# Altium schematic symbol library orig_mainboard.SchLib: 55 symbols
Pins are listed as number, name and electrical type; pins without a type are passive.

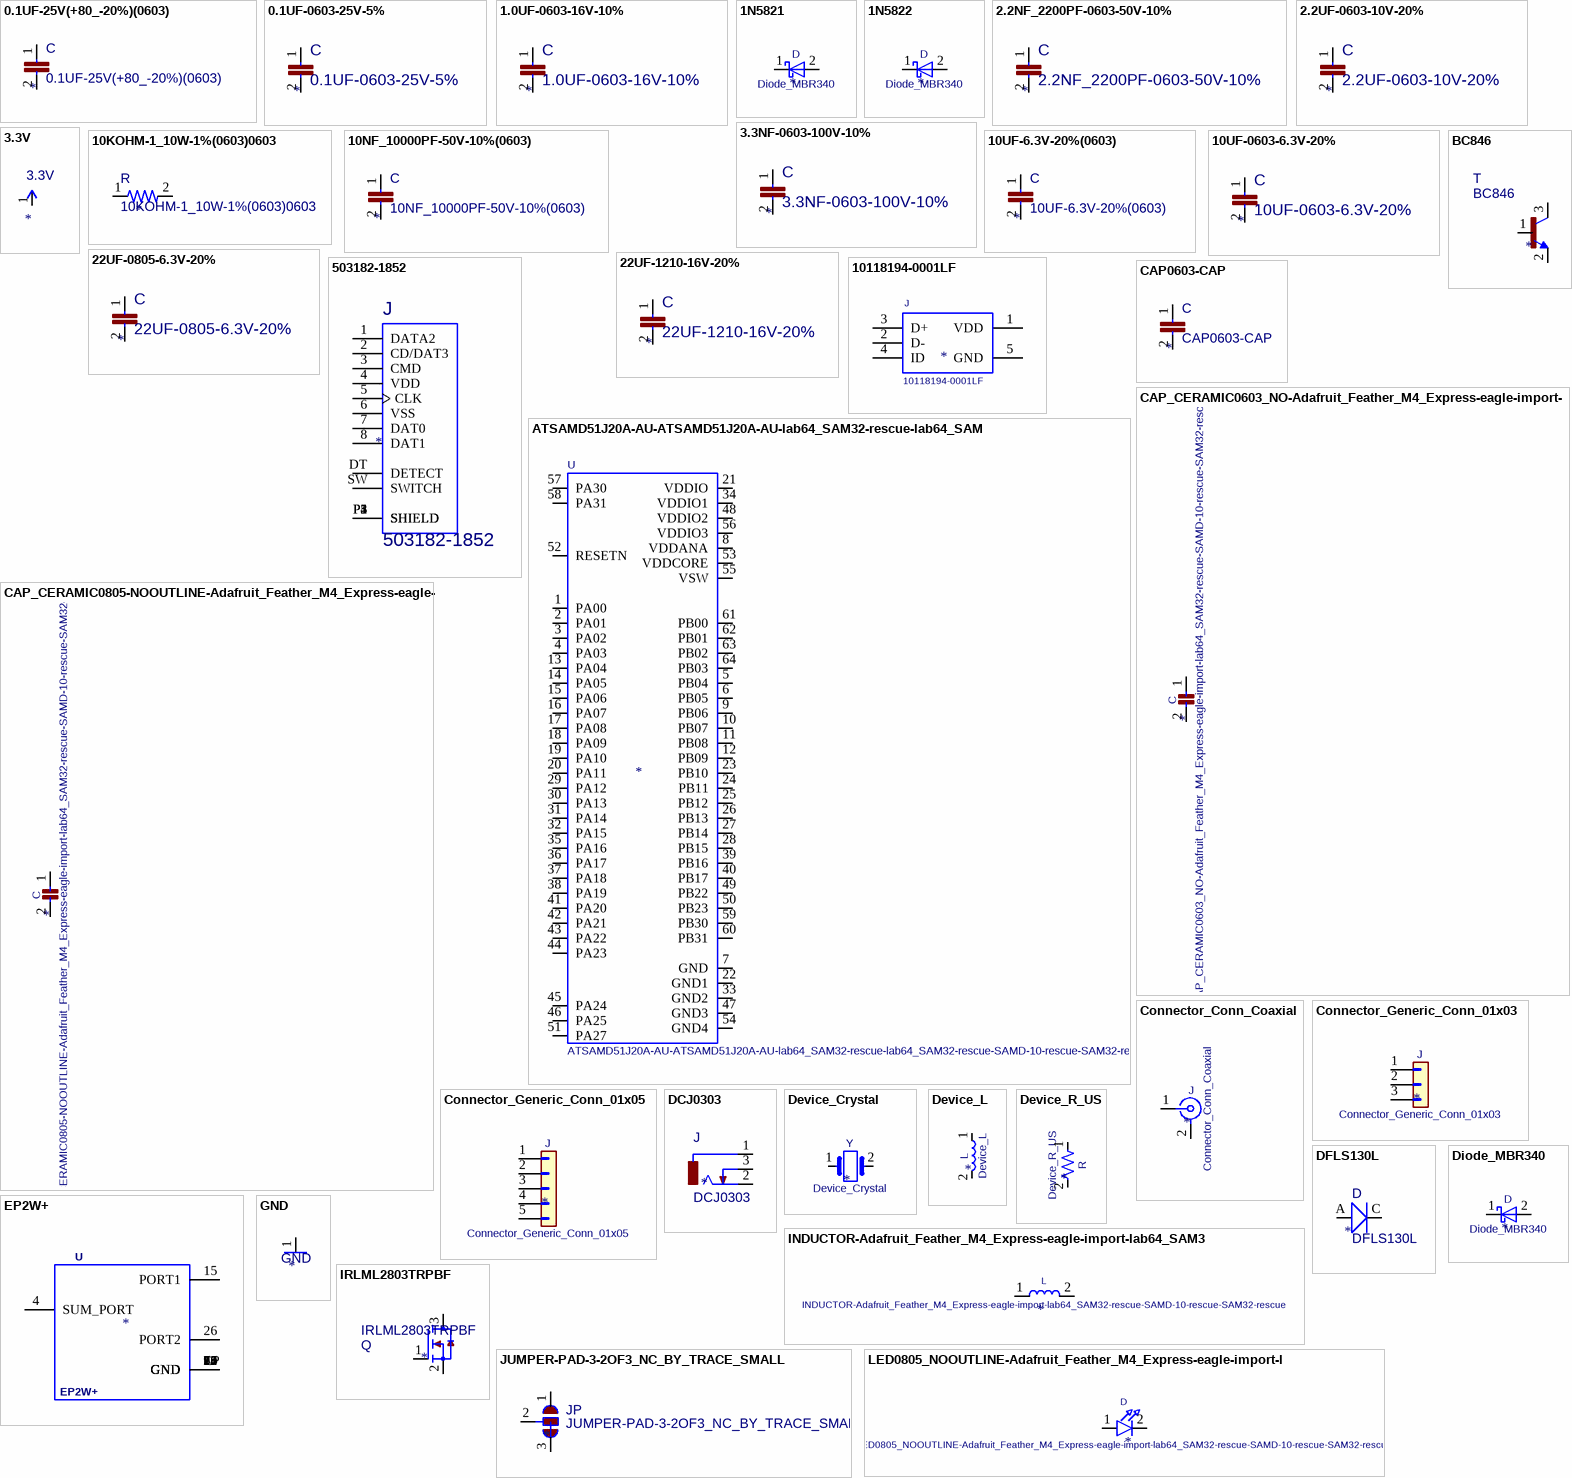
[diagram p0: symbols 0.1UF-25V(+80_-20%)(0603) to LED0805_NOOUTLINE-Adafruit_Feather_M4_Express-eagle-import-lab64_SAM32-rescue-SAMD-10-rescue-SAM32-rescue]

## 0.1UF-25V(+80_-20%)(0603)
designator C  value 0.1UF-25V(+80_-20%)(0603)
pins: 1, 2

## 0.1UF-0603-25V-5%
designator C  value 0.1UF-0603-25V-5%
pins: 1, 2

## 1.0UF-0603-16V-10%
designator C  value 1.0UF-0603-16V-10%
pins: 1, 2

## 1N5821
designator D  value Diode_MBR340
Footprint: Diode_THT:D_DO-201AD_P15.24mm_Horizontal
footprint D_DO-201AD_P15.24mm_Horizontal
pins: 1 K, 2 A

## 1N5822
designator D  value Diode_MBR340
Footprint: Diode_THT:D_DO-201AD_P15.24mm_Horizontal
footprint D_DO-201AD_P15.24mm_Horizontal
pins: 1 K, 2 A

## 2.2NF_2200PF-0603-50V-10%
designator C  value 2.2NF_2200PF-0603-50V-10%
pins: 1, 2

## 2.2UF-0603-10V-20%
designator C  value 2.2UF-0603-10V-20%
pins: 1, 2

## 3.3NF-0603-100V-10%
designator C  value 3.3NF-0603-100V-10%
pins: 1, 2

## 3.3V
designator #P+  value 3.3V
pins: 1 3.3V

## 10KOHM-1_10W-1%(0603)0603
designator R  value 10KOHM-1_10W-1%(0603)0603
pins: 1, 2

## 10NF_10000PF-50V-10%(0603)
designator C  value 10NF_10000PF-50V-10%(0603)
pins: 1, 2

## 10UF-6.3V-20%(0603)
designator C  value 10UF-6.3V-20%(0603)
pins: 1, 2

## 10UF-0603-6.3V-20%
designator C  value 10UF-0603-6.3V-20%
pins: 1, 2

## 22UF-0805-6.3V-20%
designator C  value 22UF-0805-6.3V-20%
pins: 1, 2

## 22UF-1210-16V-20%
designator C  value 22UF-1210-16V-20%
pins: 1, 2

## 503182-1852
designator J  value 503182-1852
pins: 1 DATA2, 2 CD/DAT3, 3 CMD, 4 VDD, 5 CLK, 6 VSS, 7 DAT0, 8 DAT1, DT DETECT, P1 SHIELD, P2 SHIELD, P3 SHIELD, P4 SHIELD, P5 SHIELD, SW SWITCH

## 10118194-0001LF
designator J  value 10118194-0001LF
pins: 1 VDD, 2 D-, 3 D+, 4 ID, 5 GND

## ATSAMD51J20A-AU-ATSAMD51J20A-AU-lab64_SAM32-rescue-lab64_SAM32-rescue-SAMD-10-rescue-SAM32-rescue
designator U  value ATSAMD51J20A-AU-ATSAMD51J20A-AU-lab64_SAM32-rescue-lab64_SAM32-rescue-SAMD-10-rescue-SAM32-rescue
Parameter_4: 120MHZ 1024KB Flash 64 TQFP PKG inTray 85CTemp, 64 TQFP 10x10x1mm TRAY; Parameter_5: TQFP-64 Microchip; Parameter_6: None; Parameter_7: ATSAMD51J20A-AU; Parameter_8: Unavailable; Footprint: QFP50P1200X1200X120-64N; Supplier: Microchip
footprint QFP50P1200X1200X120-64N
pins: 1 PA00, 2 PA01, 3 PA02, 4 PA03, 5 PB04, 6 PB05, 7 GND, 8 VDDANA, 9 PB06, 10 PB07, 11 PB08, 12 PB09, 13 PA04, 14 PA05, 15 PA06, 16 PA07, 17 PA08, 18 PA09, 19 PA10, 20 PA11, 21 VDDIO, 22 GND1, 23 PB10, 24 PB11, 25 PB12, 26 PB13, 27 PB14, 28 PB15, 29 PA12, 30 PA13, 31 PA14, 32 PA15, 33 GND2, 34 VDDIO1, 35 PA16, 36 PA17, 37 PA18, 38 PA19, 39 PB16, 40 PB17, 41 PA20, 42 PA21, 43 PA22, 44 PA23, 45 PA24, 46 PA25, 47 GND3, 48 VDDIO2, 49 PB22, 50 PB23, 51 PA27, 52 RESETN, 53 VDDCORE, 54 GND4, 55 VSW, 56 VDDIO3, 57 PA30, 58 PA31, 59 PB30, 60 PB31, 61 PB00, 62 PB01, 63 PB02, 64 PB03

## BC846
designator T  value BC846
pins: 1 B, 2 E, 3 C

## CAP0603-CAP
designator C  value CAP0603-CAP
pins: 1, 2

## CAP_CERAMIC0603_NO-Adafruit_Feather_M4_Express-eagle-import-lab64_SAM32-rescue-SAMD-10-rescue-SAM32-rescue
designator C  value CAP_CERAMIC0603_NO-Adafruit_Feather_M4_Express-eagle-import-lab64_SAM32-rescue-SAMD-10-rescue-SAM32-rescue
pins: 1, 2

## CAP_CERAMIC0805-NOOUTLINE-Adafruit_Feather_M4_Express-eagle-import-lab64_SAM32-rescue-SAMD-10-rescue-SAM32-rescue
designator C  value CAP_CERAMIC0805-NOOUTLINE-Adafruit_Feather_M4_Express-eagle-import-lab64_SAM32-rescue-SAMD-10-rescue-SAM32-rescue
pins: 1, 2

## Connector_Conn_Coaxial
designator J  value Connector_Conn_Coaxial
pins: 1 In, 2 Ext

## Connector_Generic_Conn_01x03
designator J  value Connector_Generic_Conn_01x03
pins: 1 Pin_1, 2 Pin_2, 3 Pin_3

## Connector_Generic_Conn_01x05
designator J  value Connector_Generic_Conn_01x05
pins: 1 Pin_1, 2 Pin_2, 3 Pin_3, 4 Pin_4, 5 Pin_5

## DCJ0303
designator J  value DCJ0303
pins: 1, 2, 3

## Device_Crystal
designator Y  value Device_Crystal
pins: 1, 2

## Device_L
designator L  value Device_L
pins: 1, 2

## Device_R_US
designator R  value Device_R_US
pins: 1, 2

## DFLS130L
designator D  value DFLS130L
pins: A, C

## Diode_MBR340
designator D  value Diode_MBR340
Footprint: Diode_THT:D_DO-201AD_P15.24mm_Horizontal
footprint D_DO-201AD_P15.24mm_Horizontal
pins: 1 K, 2 A

## EP2W+
designator U
Value: EP2W+
pins: 1 GND, 2 GND, 3 GND, 4 SUM_PORT, 5 GND, 6 GND, 7 GND, 8 GND, 9 GND, 10 GND, 11 GND, 12 GND, 13 GND, 14 GND, 15 PORT1, 16 GND, 17 GND, 18 GND, 19 GND, 20 GND, 21 GND, 22 GND, 23 GND, 24 GND, 25 GND, 26 PORT2, 27 GND, 28 GND, 29 GND, 30 GND, 31 GND, 32 GND, EP GND

## GND
designator #GND  value GND
pins: 1 GND

## INDUCTOR-Adafruit_Feather_M4_Express-eagle-import-lab64_SAM32-rescue-SAMD-10-rescue-SAM32-rescue
designator L  value INDUCTOR-Adafruit_Feather_M4_Express-eagle-import-lab64_SAM32-rescue-SAMD-10-rescue-SAM32-rescue
pins: 1, 2

## IRLML2803TRPBF
designator Q  value IRLML2803TRPBF
pins: 1 G, 2 S, 3 D

## JUMPER-PAD-3-2OF3_NC_BY_TRACE_SMALL
designator JP  value JUMPER-PAD-3-2OF3_NC_BY_TRACE_SMALL
pins: 1, 2, 3

## LED0805_NOOUTLINE-Adafruit_Feather_M4_Express-eagle-import-lab64_SAM32-rescue-SAMD-10-rescue-SAM32-rescue
designator D  value LED0805_NOOUTLINE-Adafruit_Feather_M4_Express-eagle-import-lab64_SAM32-rescue-SAMD-10-rescue-SAM32-rescue
pins: 1, 2

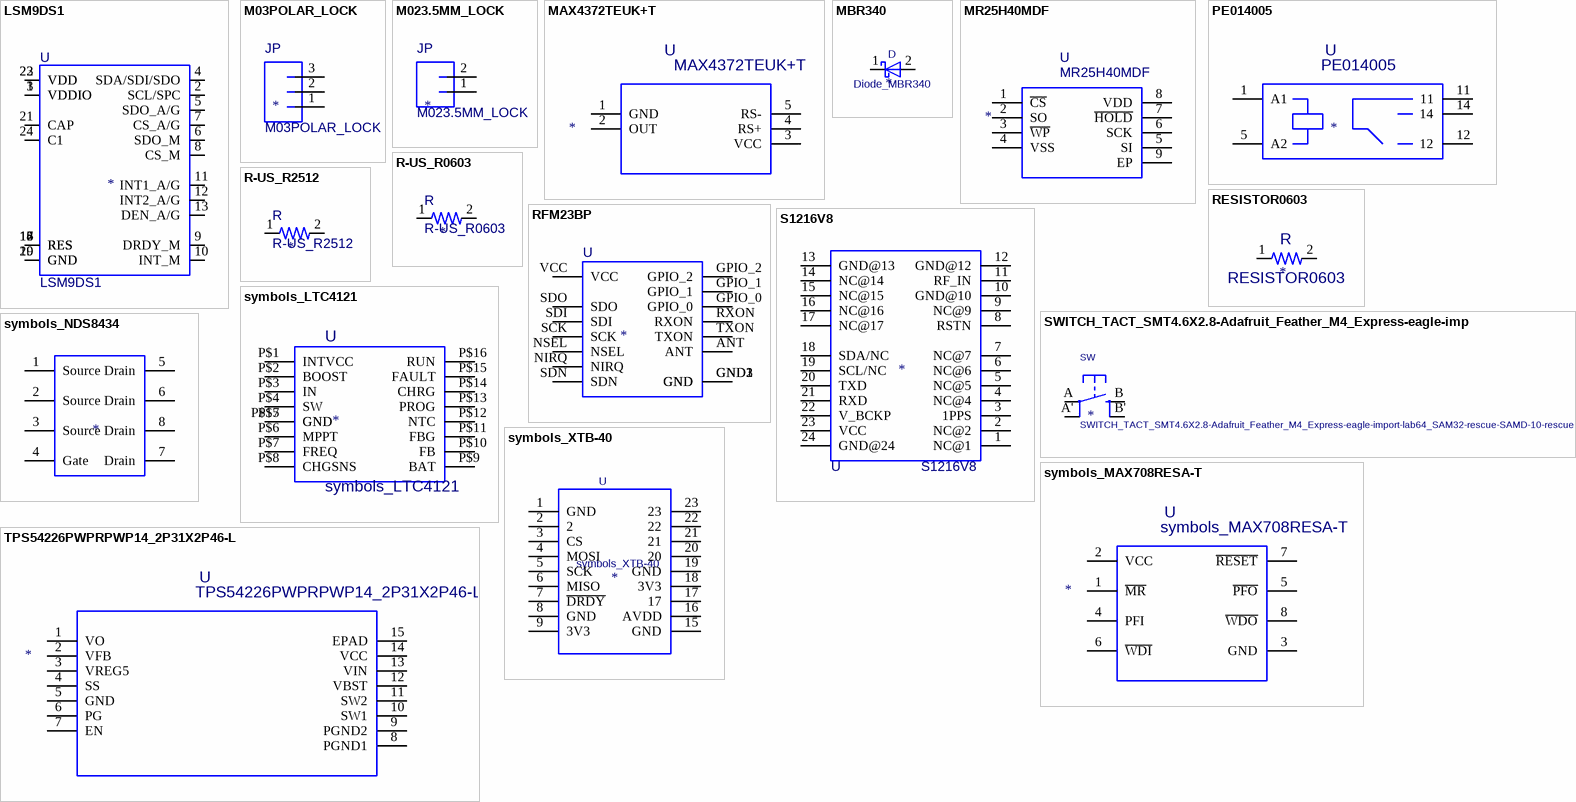
[diagram p1: symbols LSM9DS1 to TPS54226PWPRPWP14_2P31X2P46-L]

## LSM9DS1
designator U  value LSM9DS1
pins: 1 VDDIO, 2 SCL/SPC, 3 VDDIO, 4 SDA/SDI/SDO, 5 SDO_A/G, 6 SDO_M, 7 CS_A/G, 8 CS_M, 9 DRDY_M, 10 INT_M, 11 INT1_A/G, 12 INT2_A/G, 13 DEN_A/G, 14 RES, 15 RES, 16 RES, 17 RES, 18 RES, 19 GND, 20 GND, 21 CAP, 22 VDD, 23 VDD, 24 C1

## M03POLAR_LOCK
designator JP  value M03POLAR_LOCK
pins: 1, 2, 3

## M023.5MM_LOCK
designator JP  value M023.5MM_LOCK
pins: 1, 2

## MAX4372TEUK+T
designator U  value MAX4372TEUK+T
pins: 1 GND, 2 OUT, 3 VCC, 4 RS+, 5 RS-

## MBR340
designator D  value Diode_MBR340
Footprint: Diode_THT:D_DO-201AD_P15.24mm_Horizontal
footprint D_DO-201AD_P15.24mm_Horizontal
pins: 1 K, 2 A

## MR25H40MDF
designator U  value MR25H40MDF
pins: 1 ~{CS}, 2 SO, 3 ~{WP}, 4 VSS, 5 SI, 6 SCK, 7 ~{HOLD}, 8 VDD, 9 EP

## PE014005
designator U  value PE014005
pins: 1 A1, 5 A2, 11, 12, 14

## R-US_R0603
designator R  value R-US_R0603
pins: 1, 2

## R-US_R2512
designator R  value R-US_R2512
pins: 1, 2

## RESISTOR0603
designator R  value RESISTOR0603
pins: 1, 2

## RFM23BP
designator U
Value: RFM23BP
pins: ANT, GND1 GND, GND2 GND, GND3 GND, GPIO_0, GPIO_1, GPIO_2, NIRQ, NSEL, RXON, SCK, SDI, SDN, SDO, TXON, VCC

## S1216V8
designator U  value S1216V8
pins: 1 NC@1, 2 NC@2, 3 1PPS, 4 NC@4, 5 NC@5, 6 NC@6, 7 NC@7, 8 RSTN, 9 NC@9, 10 GND@10, 11 RF_IN, 12 GND@12, 13 GND@13, 14 NC@14, 15 NC@15, 16 NC@16, 17 NC@17, 18 SDA/NC, 19 SCL/NC, 20 TXD, 21 RXD, 22 V_BCKP, 23 VCC, 24 GND@24

## SWITCH_TACT_SMT4.6X2.8-Adafruit_Feather_M4_Express-eagle-import-lab64_SAM32-rescue-SAMD-10-rescue-SAM32-rescue
designator SW  value SWITCH_TACT_SMT4.6X2.8-Adafruit_Feather_M4_Express-eagle-import-lab64_SAM32-rescue-SAMD-10-rescue-SAM32-rescue
pins: A P, A' P1, B S, B' S1

## symbols_LTC4121
designator U  value symbols_LTC4121
pins: P$1 INTVCC, P$2 BOOST, P$3 IN, P$4 SW, P$5 GND, P$6 MPPT, P$7 FREQ, P$8 CHGSNS, P$9 BAT, P$10 FB, P$11 FBG, P$12 NTC, P$13 PROG, P$14 CHRG, P$15 FAULT, P$16 RUN, P$17 GND

## symbols_MAX708RESA-T
designator U  value symbols_MAX708RESA-T
pins: 1 ~{MR}, 2 VCC, 3 GND, 4 PFI, 5 ~{PFO}, 6 ~{WDI}, 7 ~{RESET}, 8 ~{WDO}

## symbols_NDS8434
designator U
Value: symbols_NDS8434; Parameter_4: ON Semiconductor; Field7: NDS8434; Field8: SO-8 ON Semiconductor; Footprint: custom-footprints:NDS8434
footprint NDS8434
pins: 1 Source, 2 Source, 3 Source, 4 Gate, 5 Drain, 6 Drain, 7 Drain, 8 Drain

## symbols_XTB-40
designator U  value symbols_XTB-40
Footprint: custom-footprints:XTB28_MEZ
footprint XTB28_MEZ
pins: 1 GND, 2, 3 CS, 4 MOSI, 5 SCK, 6 MISO, 7 ~{DRDY}, 8 GND, 9 3V3, 10 GND hidden, 11 AVDD hidden, 15 GND, 16 AVDD, 17, 18 3V3, 19 GND, 20, 21, 22, 23

## TPS54226PWPRPWP14_2P31X2P46-L
designator U  value TPS54226PWPRPWP14_2P31X2P46-L
pins: 1 VO, 2 VFB, 3 VREG5, 4 SS, 5 GND, 6 PG, 7 EN, 8 PGND1, 9 PGND2, 10 SW1, 11 SW2, 12 VBST, 13 VIN, 14 VCC, 15 EPAD